# Altium footprint library Analog ICs.PcbLib: 3 footprints
Each footprint in its own frame and in the unit in brackets; x right, y up, seen from the top. Pads: shape width x height; smd on the part's side, far side on the other; paste and mask are expansions set on the pad; w line width, h text height; cw(c..) or ccw(c..) is an arc to the next point about the centre after c.
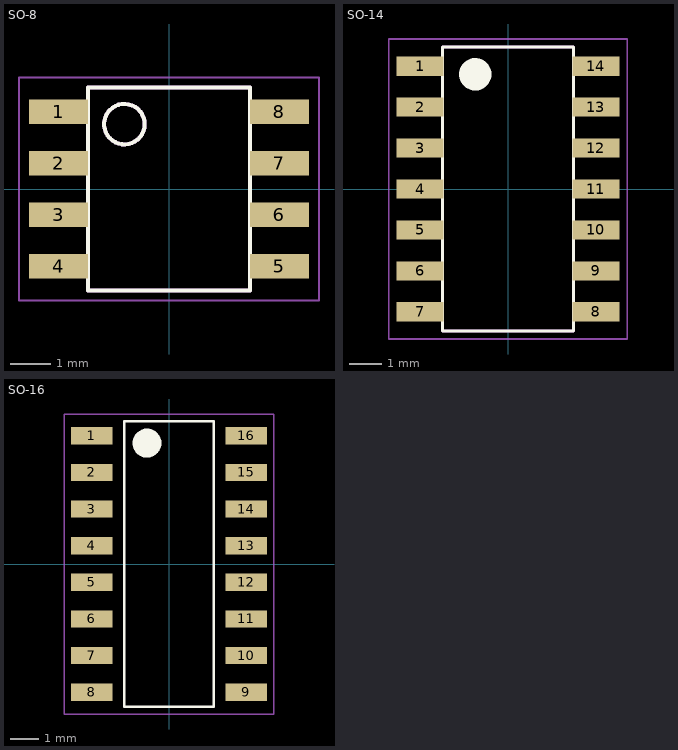
[diagram p0: the footprints below, top view; thin cyan lines are the x and y axes]

## SO-8 [mm] "SOIC, 8-Leads, Body 4.90x3.90mm, Pitch 1.27mm, IPC Medium Density"
height 1.75
pads (8):
  rect 1.45x0.6 smd: 1(-2.725,1.905) 2(-2.725,0.635) 3(-2.725,-0.635) 4(-2.725,-1.905) 5(2.725,-1.905) 6(2.725,-0.635) 7(2.725,0.635) 8(2.725,1.905)
Top Overlay:
  circle w0.1: c-1.1,1.6 r0.5
  lines w0.1: -2,-2.5 -2,2.5 2,2.5 2,-2.5 -2,-2.5
Mechanical 2:
  circle w0.1: c-1.1,1.6 r0.5
  lines w0.05: -3.7,-2.75 -3.7,2.75 3.7,2.75 3.7,-2.75 -3.7,-2.75
  lines w0.1: -2,-2.5 2,-2.5 2,2.5 -2,2.5 -2,-2.5
3D body "SOIC8.STEP": height 1.75, standoff 0, extent -3.025,-2.45 2.975,2.45

## SO-14 [mm] "SOIC, 14-Leads, Body 8.65x3.90mm, Pitch 1.27mm, IPC Medium Density"
height 1.75
pads (14):
  rect 1.45x0.6 smd: 1(-2.725,3.81) 2(-2.725,2.54) 3(-2.725,1.27) 4(-2.725,0) 5(-2.725,-1.27) 6(-2.725,-2.54) 7(-2.725,-3.81) 8(2.725,-3.81) 9(2.725,-2.54) 10(2.725,-1.27) 11(2.725,0) 12(2.725,1.27) 13(2.725,2.54) 14(2.725,3.81)
Top Overlay:
  circle w0.6: c-1.016,3.556 r0.2
  lines w0.1: -2.032,-4.4 2.032,-4.4 2.032,4.4 -2.032,4.4 -2.032,-4.4
Mechanical 2:
  lines w0.05: -3.7,-4.65 3.7,-4.65 3.7,4.65 -3.7,4.65 -3.7,-4.65
  lines w0.1: -2.032,-4.4 -2.032,4.4 2.032,4.4 2.032,-4.4 -2.032,-4.4
3D body "SOIC14.step": height 1.6, standoff 0, extent -2.995,-4.345 2.995,4.345

## SO-16 [mm] "SOIC, 16-Leads, Body 9.85x3.85mm, Pitch 1.27mm, IPC Medium Density"
height 1.75
pads (16):
  rect 1.45x0.6 smd: 1(-2.675,4.445) 2(-2.675,3.175) 3(-2.675,1.905) 4(-2.675,0.635) 5(-2.675,-0.635) 6(-2.675,-1.905) 7(-2.675,-3.175) 8(-2.675,-4.445) 9(2.675,-4.445) 10(2.675,-3.175) 11(2.675,-1.905) 12(2.675,-0.635) 13(2.675,0.635) 14(2.675,1.905) 15(2.675,3.175) 16(2.675,4.445)
Top Overlay:
  circle w0.6: c-0.762,4.191 r0.2
  lines w0.1: -1.55,-4.95 -1.55,4.95 1.55,4.95 1.55,-4.95 -1.55,-4.95
Mechanical 2:
  lines w0.05: -3.625,-5.2 -3.625,5.2 3.625,5.2 3.625,-5.2 -3.625,-5.2
3D body "SOIC16.STEP": height 1.73, standoff -0.04, extent -3.068,-4.985 3.069,4.985